# Altium schematic symbol library N CHN FET.schlib: 5 symbols
Pins are listed as number, name and electrical type; pins without a type are passive.

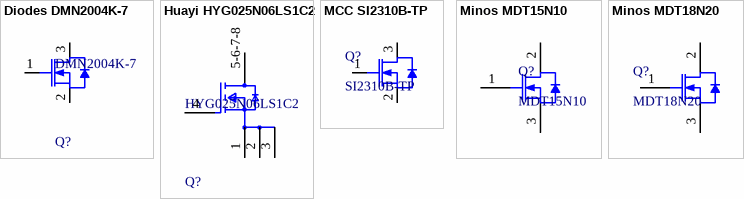
[diagram p0: symbols Diodes DMN2004K-7 to Minos MDT18N20]

## Diodes DMN2004K-7
designator Q?, comment DMN2004K-7
MOSFET N-CH 20V 0.63A SOT23-3; Manufacturer: Diodes Inc.; Drain To Source Resistance: 0.4Ω; Turn Off Delay Time: 59.4ns; Continuous Drain Current: 630mA; Pulse Drain Current: 1.5A; Gate To Source Voltage: 8V; Reverse Recovery Time: 5.5ns; Number Of N Channels: 1; Depletion Mode: False; Max Forward Diode Voltage: 1V; Threshold Vgs Min: 0.5V; Turn On Delay Time: 5.7ns; Standoff Height: 0.013mm; Input Capacitace At Vds: 150pF @ 16V; Rthja Max: 357°C/W; Reverse Recovery Charge: 0.85nC; Automotive Grade: Grade 0; Max Junction Temp: +150°C; Power Dissipation: 350mW; Gate Charge At Vgs: 0.9nC @ 4.5V; Octopart: https://octopart.com/dmn2004k-7-diodes+inc.-7127688; Mouser Description: MOSFET 20V 540mA; Lead Free: Yes; Footprint Url: https://www.diodes.com/assets/Package-Files/SOT23.pdf; Height: 1.1mm; Temperature: -65°C to +150°C; Device Class L2: Transistors; Device Class L1: Discrete Semiconductors; ComponentLink2Description: Datasheet; RoHS: TRUE; Device Class L3: MOSFETs; Manufacturer Part Number: DMN2004K-7; Threshold Vgs Max: 1V; Number Of Channels: 1; Automotive: Yes; Category: Trans; Temperature Range Low: -65°C; Drain To Source Voltage: 20V; Drain To Source Breakdown Voltage: 20V; ComponentLink2URL: https://www.diodes.com/assets/Datasheets/ds30938.pdf; Temperature Range High: +150°C; Package: SOT23; Digikey Description: MOSFET N-CH 20V 0.63A SOT23-3
footprint Diodes SOT23-3
pins: 1 G, 2 S, 3 D

## Huayi HYG025N06LS1C2
designator Q?, comment HYG025N06LS1C2
MOSFET N-CH VDS = 60V,ID = 170A, VGS = 20V PDFN8L; ComponentLink2Description: Datasheet; ComponentLink2URL: https://www.diodes.com/assets/Datasheets/ds30938.pdf
footprint Huayi PDFN8L
pins: 1 S, 2 S, 3 S, 4 G, 5-6-7-8 D

## MCC SI2310B-TP
designator Q?, comment SI2310B-TP
Power Field-Effect Transistor; Manufacturer: MCC; Supplier: Digikey; Supplier Part Number: 353-SI2310B-TPCT-ND; Manufacturer Part Number: SI2310B-TP; RoHS: Yes; Stock: 114263; Pricing: 1=0,36, 10=0,255, 100=0,1286, 500=0,10488, 1000=0,07782 (USD)
footprint MCC SOT-23-3
pins: 1 G, 2 S, 3 D

## Minos MDT15N10
designator Q?, comment MDT15N10
VDS = 100V,ID = 15A, RDS(ON) < 90mΩ @ VGS=10V / RDS(ON) < 115mΩ @ VGS=4.5V
footprint Minos TO-252-2L 6.3X9.6MM
pins: 1 G, 2 D, 3 S

## Minos MDT18N20
designator Q?, comment MDT18N20
VDS = 200V,ID = 18A, VGS=30V
footprint Minos TO-252-2L 6.3X9.6MM
pins: 1 G, 2 D, 3 S